# Altium footprint library PCB_20230109_2023-01-11.PcbLib: 21 footprints (part 1 of 2)
Each footprint in its own frame and in the unit in brackets; x right, y up, seen from the top. Pads: shape width x height; smd on the part's side, far side on the other; paste and mask are expansions set on the pad; w line width, h text height; cw(c..) or ccw(c..) is an arc to the next point about the centre after c.
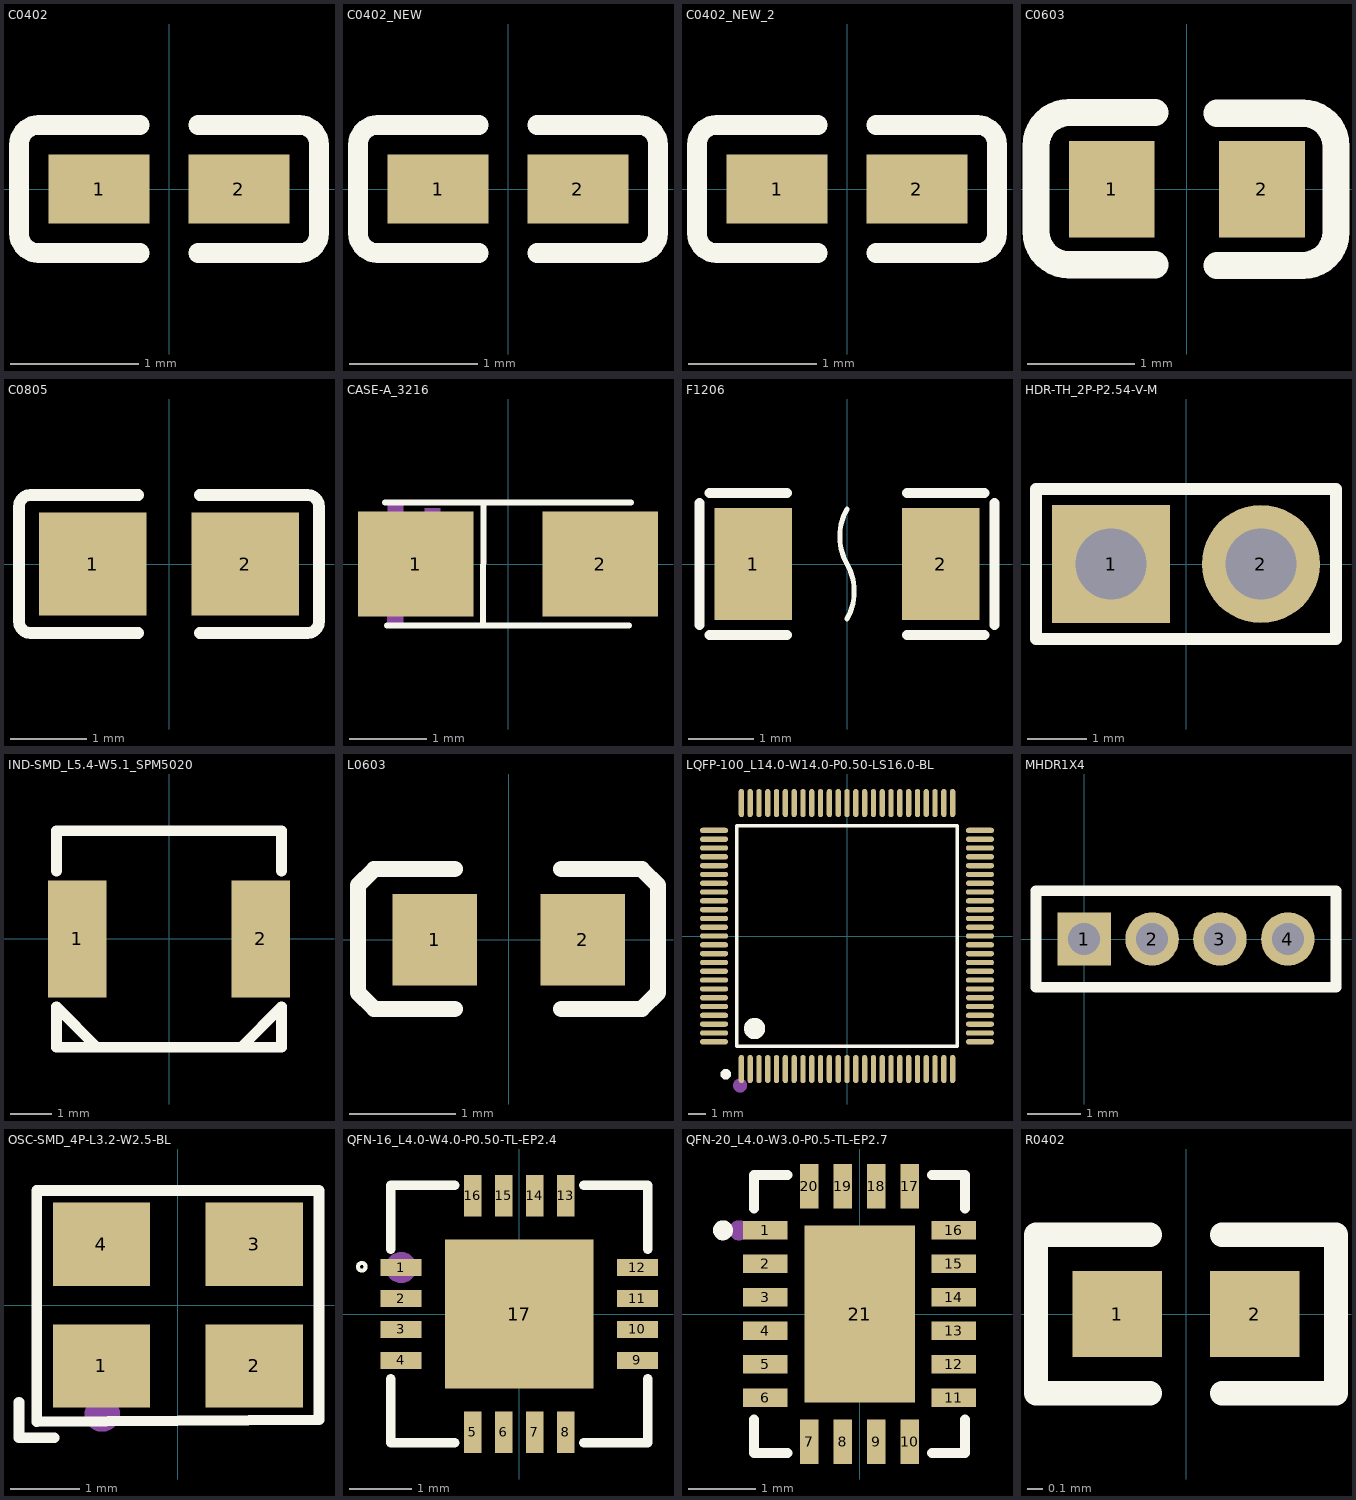
[diagram p0: the footprints below, top view; thin cyan lines are the x and y axes]

## C0402 [mm]
pads (2):
  rect 0.79x0.54 smd: 1(-0.545,0) 2(0.545,0)
Top Overlay:
  lines w0.152: -0.226,-0.499 -1.016,-0.499 cw(c-1.016,-0.346) -1.169,-0.346 -1.169,0.346 cw(c-1.016,0.346) -1.016,0.499 -0.226,0.499 ; 0.226,-0.499 1.016,-0.499 ccw(c1.016,-0.346) 1.169,-0.346 1.169,0.346 ccw(c1.016,0.346) 1.016,0.499 0.226,0.499
Top Paste:
  region: 0.78,0.225 0.78,-0.225 0.73,-0.275 0.25,-0.275 0.18,-0.225 0.18,0.225 0.25,0.275 0.73,0.275
  region: -0.18,0.225 -0.18,-0.225 -0.25,-0.275 -0.73,-0.275 -0.78,-0.225 -0.78,0.225 -0.73,0.275 -0.25,0.275

## C0402_NEW [mm]
pads (2):
  rect 0.79x0.54 smd: 1(-0.545,0) 2(0.545,0)
Top Overlay:
  lines w0.152: -0.226,-0.499 -1.016,-0.499 cw(c-1.016,-0.346) -1.169,-0.346 -1.169,0.346 cw(c-1.016,0.346) -1.016,0.499 -0.226,0.499 ; 0.226,-0.499 1.016,-0.499 ccw(c1.016,-0.346) 1.169,-0.346 1.169,0.346 ccw(c1.016,0.346) 1.016,0.499 0.226,0.499
Top Paste:
  region: -0.2,0.225 -0.2,-0.225 -0.25,-0.275 -0.78,-0.275 -0.83,-0.225 -0.83,0.225 -0.78,0.275 -0.25,0.275
  region: 0.83,0.225 0.83,-0.225 0.78,-0.275 0.25,-0.275 0.2,-0.225 0.2,0.225 0.25,0.275 0.78,0.275

## C0402_NEW_2 [mm]
pads (2):
  rect 0.79x0.54 smd: 1(-0.545,0) 2(0.545,0)
Top Overlay:
  lines w0.152: -0.226,-0.499 -1.016,-0.499 cw(c-1.016,-0.346) -1.169,-0.346 -1.169,0.346 cw(c-1.016,0.346) -1.016,0.499 -0.226,0.499 ; 0.226,-0.499 1.016,-0.499 ccw(c1.016,-0.346) 1.169,-0.346 1.169,0.346 ccw(c1.016,0.346) 1.016,0.499 0.226,0.499
Top Paste:
  region: -0.2,0.225 -0.2,-0.225 -0.25,-0.275 -0.78,-0.275 -0.83,-0.225 -0.83,0.225 -0.78,0.275 -0.25,0.275
  region: 0.83,0.225 0.83,-0.225 0.78,-0.275 0.25,-0.275 0.2,-0.225 0.2,0.225 0.25,0.275 0.78,0.275

## C0603 [mm]
pads (2):
  rect 0.8x0.9 smd: 1(-0.7,0) 2(0.7,0)
Top Overlay:
  lines w0.254: -0.296,-0.704 -1.096,-0.704 cw(c-1.096,-0.394) -1.406,-0.394 -1.405,0.406 cw(c-1.096,0.406) -1.096,0.715 -0.296,0.715 ; 0.28,-0.71 1.08,-0.71 ccw(c1.08,-0.4) 1.39,-0.4 1.39,0.4 ccw(c1.08,0.4) 1.08,0.71 0.28,0.71

## C0805 [mm]
pads (2):
  rect 1.41x1.35 smd: 1(-1,0) 2(1,0)
Top Overlay:
  lines w0.152: -0.401,-0.904 -1.811,-0.904 cw(c-1.811,-0.751) -1.964,-0.751 -1.964,0.751 cw(c-1.811,0.751) -1.811,0.904 -0.401,0.904 ; 0.401,-0.904 1.811,-0.904 ccw(c1.811,-0.751) 1.964,-0.751 1.964,0.751 ccw(c1.811,0.751) 1.811,0.904 0.401,0.904
Top Paste:
  region: 0.475,-0.62 0.475,-0.2 0.92,-0.2 0.92,0.25 0.48,0.25 0.475,0.66 0.525,0.71 1.675,0.71 1.725,0.66 1.725,-0.62 1.675,-0.67 0.525,-0.67
  region: -1.675,-0.62 -1.675,0.66 -1.625,0.71 -0.475,0.71 -0.425,0.66 -0.42,0.25 -0.87,0.25 -0.87,-0.2 -0.43,-0.2 -0.425,-0.62 -0.475,-0.67 -1.625,-0.67

## CASE-A_3216 [mm]
pads (2):
  rect 1.5x1.359 smd: 1(-1.2,0) 2(1.2,0)
Top Overlay:
  lines w0.08: -1.6,0.8 1.6,0.8 ; -1.575,-0.8 1.575,-0.8 ; -0.323,-0.8 -0.32,0.8
Mechanical 15:
  region: 1.501,0.13 1.501,-0.08 0.661,-0.08 0.661,0.13
  region: -1.563,0.813 -1.36,0.813 -1.36,0.483 -1.563,0.483
  region: -1.363,-0.813 -1.567,-0.813 -1.567,-0.483 -1.363,-0.483
  region: -0.61,0.13 -0.61,-0.08 -1.45,-0.08 -1.45,0.13
  region: -1.081,0.724 -0.878,0.724 -0.878,-0.673 -1.081,-0.673

## F1206 [mm]
pads (2):
  rect 1.19x1.728 smd: 1(-1.445,0) 2(1.445,0)
Top Overlay:
  lines w0.076: 0,-0.845 ccw(c-0.732,-0.422) 0,0 cw(c0.732,0.422) 0,0.845
  lines w0.152: -2.269,-0.94 -2.269,0.94 ; -2.116,-1.093 -0.926,-1.093 ; -2.116,1.093 -0.926,1.093 ; 0.926,-1.093 2.116,-1.093 ; 0.926,1.093 2.116,1.093 ; 2.269,-0.94 2.269,0.94

## HDR-TH_2P-P2.54-V-M [mm]
pads (2):
  rect 2x2 hole 1.2: 1(-1.27,0)
  round 2 hole 1.2: 2(1.27,0)
Top Overlay:
  lines w0.203: -2.54,-1.27 2.54,-1.27 2.54,1.27 -0.635,1.27 -2.54,1.27 -2.54,-1.27

## IND-SMD_L5.4-W5.1_SPM5020 [mm]
pads (2):
  rect 1.4x2.8 smd: 1(-2.2,0) 2(2.2,0)
Top Overlay:
  lines w0.254: -2.7,1.631 -2.7,2.6 2.7,2.6 2.7,1.631 ; -1.712,-2.601 -1.732,-2.601 -2.7,-1.631 -2.7,-2.6 2.7,-2.6 2.7,-1.631 1.732,-2.601 1.511,-2.601

## L0603 [mm]
pads (2):
  rect 0.8x0.864 smd: 1(-0.7,0) 2(0.7,0)
Top Overlay:
  lines w0.152: -0.51,-0.651 -1.272,-0.651 -1.424,-0.499 -1.424,0.517 -1.272,0.67 -0.51,0.67 ; 0.496,-0.651 1.258,-0.651 1.411,-0.499 1.411,0.517 1.258,0.67 0.496,0.67
Top Paste:
  region: 0.264,0.154 0.264,-0.122 0.538,-0.416 1.042,-0.416 1.106,-0.352 1.106,0.384 1.042,0.448 0.538,0.448
  region: -0.252,0.143 -0.252,-0.134 -0.526,-0.427 -1.029,-0.427 -1.093,-0.363 -1.093,0.373 -1.029,0.437 -0.526,0.437

## LQFP-100_L14.0-W14.0-P0.50-LS16.0-BL [mm]
pads (100):
  oval 0.3x1.6 smd: 1(-6,-7.55) 2(-5.5,-7.55) 3(-5,-7.55) 4(-4.5,-7.55) 5(-4,-7.55) 6(-3.5,-7.55) 7(-3,-7.55) 8(-2.5,-7.55) 9(-2,-7.55) 10(-1.5,-7.55) 11(-1,-7.55) 12(-0.5,-7.55) 13(0,-7.55) 14(0.5,-7.55) 15(1,-7.55) 16(1.5,-7.55) 17(2,-7.55) 18(2.5,-7.55) 19(3,-7.55) 20(3.5,-7.55) 21(4,-7.55) 22(4.5,-7.55) 23(5,-7.55) 24(5.5,-7.55) 25(6,-7.55) 51(6,7.55) 52(5.5,7.55) 53(5,7.55) 54(4.5,7.55) 55(4,7.55) 56(3.5,7.55) 57(3,7.55) 58(2.5,7.55) 59(2,7.55) 60(1.5,7.55) 61(1,7.55) 62(0.5,7.55) 63(0,7.55) 64(-0.5,7.55) 65(-1,7.55) 66(-1.5,7.55) 67(-2,7.55) 68(-2.5,7.55) 69(-3,7.55) 70(-3.5,7.55) 71(-4,7.55) 72(-4.5,7.55) 73(-5,7.55) 74(-5.5,7.55) 75(-6,7.55)
  oval 1.6x0.3 smd: 26(7.55,-6) 27(7.55,-5.5) 28(7.55,-5) 29(7.55,-4.5) 30(7.55,-4) 31(7.55,-3.5) 32(7.55,-3) 33(7.55,-2.5) 34(7.55,-2) 35(7.55,-1.5) 36(7.55,-1) 37(7.55,-0.5) 38(7.55,0) 39(7.55,0.5) 40(7.55,1) 41(7.55,1.5) 42(7.55,2) 43(7.55,2.5) 44(7.55,3) 45(7.55,3.5) 46(7.55,4) 47(7.55,4.5) 48(7.55,5) 49(7.55,5.5) 50(7.55,6) 76(-7.55,6) 77(-7.55,5.5) 78(-7.55,5) 79(-7.55,4.5) 80(-7.55,4) 81(-7.55,3.5) 82(-7.55,3) 83(-7.55,2.5) 84(-7.55,2) 85(-7.55,1.5) 86(-7.55,1) 87(-7.55,0.5) 88(-7.55,0) 89(-7.55,-0.5) 90(-7.55,-1) 91(-7.55,-1.5) 92(-7.55,-2) 93(-7.55,-2.5) 94(-7.55,-3) 95(-7.55,-3.5) 96(-7.55,-4) 97(-7.55,-4.5) 98(-7.55,-5) 99(-7.55,-5.5) 100(-7.55,-6)
Top Overlay:
  lines w0.2: -6.25,-6.25 6.25,-6.25 6.25,6.25 -6.25,6.25 -6.25,-6.25
  lines w0.3: -6.883,-7.696 ccw(c-6.882,-7.846) -6.881,-7.696
  lines w0.6: -5.25,-4.95 ccw(c-5.248,-5.25) -5.245,-4.95
Top Paste:
  drawing of 100 lines, arcs and shapes, not listed
Mechanical 15:
  circle w0.4: c-6.071,-8.484 r0.2

## MHDR1X4 [mm] "Connector; Header; 4 Position"
pads (4):
  rect 1x1 hole 0.6: 1(0,0)
  round 1 hole 0.6: 2(1.27,0) 3(2.54,0) 4(3.81,0)
Top Overlay:
  lines w0.2: -0.9,-0.9 -0.9,0.9 4.71,0.9 4.71,-0.9 -0.9,-0.9

## OSC-SMD_4P-L3.2-W2.5-BL [mm]
pads (4):
  rect 1.4x1.2 smd: 1(-1.1,-0.875) 2(1.1,-0.875) 3(1.1,0.875) 4(-1.1,0.875)
Top Overlay:
  lines w0.152: -2.286,-1.397 -2.286,-1.905 -1.778,-1.905 ; -2.029,-1.679 -2.029,1.651 2.032,1.651 2.032,0 2.032,-1.651 -2.029,-1.679
Mechanical 15:
  circle w0.254: c-1.088,-1.567 r0.127
  region: -1.486,-0.428 -1.45,-0.428 -1.45,-1.004 -1.486,-1.004
  region: -1.522,-0.428 -1.486,-0.428 -1.486,-1.004 -1.522,-1.004
  region: -1.558,-0.428 -1.522,-0.428 -1.522,-1.004 -1.558,-1.004
  region: -1.594,-0.464 -1.558,-0.464 -1.558,-1.004 -1.594,-1.004
  region: -1.63,-0.464 -1.594,-0.464 -1.594,-0.572 -1.63,-0.572
  region: -1.666,-0.5 -1.63,-0.5 -1.63,-0.608 -1.666,-0.608
  region: -1.702,-0.536 -1.666,-0.536 -1.666,-0.608 -1.702,-0.608
  region: -1.738,-0.536 -1.702,-0.536 -1.702,-0.608 -1.738,-0.608

## QFN-16_L4.0-W4.0-P0.50-TL-EP2.4 [mm]
pads (17):
  rect 0.665x0.28 smd: 1(-1.907,0.75) 2(-1.907,0.25) 3(-1.907,-0.25) 4(-1.907,-0.75) 9(1.907,-0.75) 10(1.907,-0.25) 11(1.907,0.25) 12(1.907,0.75)
  rect 0.28x0.665 smd: 5(-0.75,-1.907) 6(-0.25,-1.907) 7(0.25,-1.907) 8(0.75,-1.907) 13(0.75,1.907) 14(0.25,1.907) 15(-0.25,1.907) 16(-0.75,1.907)
  rect 2.4x2.4 smd: 17(0,0)
Top Overlay:
  circle w0.063: c-2.54,0.762 r0.062
  lines w0.152: -2.076,-1.042 -2.076,-2.076 -1.042,-2.076 ; -2.076,1.042 -2.076,2.076 -1.042,2.076 ; 1.042,-2.076 2.076,-2.076 2.076,-1.042 ; 1.042,2.076 2.076,2.076 2.076,1.042
Top Paste:
  region: -2.24,0.61 -1.575,0.61 -1.575,0.89 -2.24,0.89
  region: -2.24,0.11 -1.575,0.11 -1.575,0.39 -2.24,0.39
  region: -2.24,-0.39 -1.575,-0.39 -1.575,-0.11 -2.24,-0.11
  region: -2.24,-0.89 -1.575,-0.89 -1.575,-0.61 -2.24,-0.61
  region: -0.89,-2.24 -0.61,-2.24 -0.61,-1.575 -0.89,-1.575
  region: -0.39,-2.24 -0.11,-2.24 -0.11,-1.575 -0.39,-1.575
  region: 0.11,-2.24 0.39,-2.24 0.39,-1.575 0.11,-1.575
  region: 0.61,-2.24 0.89,-2.24 0.89,-1.575 0.61,-1.575
  region: 1.575,-0.89 2.24,-0.89 2.24,-0.61 1.575,-0.61
  region: 1.575,-0.39 2.24,-0.39 2.24,-0.11 1.575,-0.11
  region: 1.575,0.11 2.24,0.11 2.24,0.39 1.575,0.39
  region: 1.575,0.61 2.24,0.61 2.24,0.89 1.575,0.89
  region: 0.61,1.575 0.89,1.575 0.89,2.24 0.61,2.24
  region: 0.11,1.575 0.39,1.575 0.39,2.24 0.11,2.24
  region: -0.39,1.575 -0.11,1.575 -0.11,2.24 -0.39,2.24
  region: -0.89,1.575 -0.61,1.575 -0.61,2.24 -0.89,2.24
  region: -0.98,-0.98 0.98,-0.98 0.98,0.98 -0.98,0.98
Mechanical 15:
  circle w0.25: c-1.908,0.75 r0.125

## QFN-20_L4.0-W3.0-P0.5-TL-EP2.7 [mm]
pads (21):
  rect 0.665x0.28 smd: 1(-1.407,1.25) 2(-1.407,0.75) 3(-1.407,0.25) 4(-1.407,-0.25) 5(-1.407,-0.75) 6(-1.407,-1.25) 11(1.407,-1.25) 12(1.407,-0.75) 13(1.407,-0.25) 14(1.407,0.25) 15(1.407,0.75) 16(1.407,1.25)
  rect 0.28x0.665 smd: 7(-0.75,-1.907) 8(-0.25,-1.907) 9(0.25,-1.907) 10(0.75,-1.907) 17(0.75,1.907) 18(0.25,1.907) 19(-0.25,1.907) 20(-0.75,1.907)
  rect 1.65x2.65 smd: 21(0,0)
Top Overlay:
  circle w0.15: c-2.04,1.25 r0.075
  lines w0.152: -1.576,-1.58 -1.576,-2.076 -1.08,-2.076 ; -1.576,1.58 -1.576,2.076 -1.08,2.076 ; 1.081,-2.076 1.576,-2.076 1.576,-1.58 ; 1.081,2.076 1.576,2.076 1.576,1.58
Mechanical 15:
  circle w0.15: c-1.8,1.25 r0.075

## R0402 [mm]
pads (2):
  rect 0.566x0.54 smd: 1(-0.433,0) 2(0.433,0)
Top Overlay:
  lines w0.152: -0.226,-0.499 -0.944,-0.499 -0.944,0.499 -0.226,0.499 ; 0.226,-0.499 0.944,-0.499 0.944,0.499 0.226,0.499
Top Paste:
  region: 0.135,-0.23 0.135,0.23 0.175,0.27 0.676,0.27 0.716,0.23 0.716,-0.23 0.676,-0.27 0.175,-0.27
  region: -0.135,-0.23 -0.135,0.23 -0.175,0.27 -0.676,0.27 -0.716,0.23 -0.716,-0.23 -0.676,-0.27 -0.175,-0.27